# EAGLE library part PCIEX4_SMALL_CARD (library con-pcie-x4-short-card)
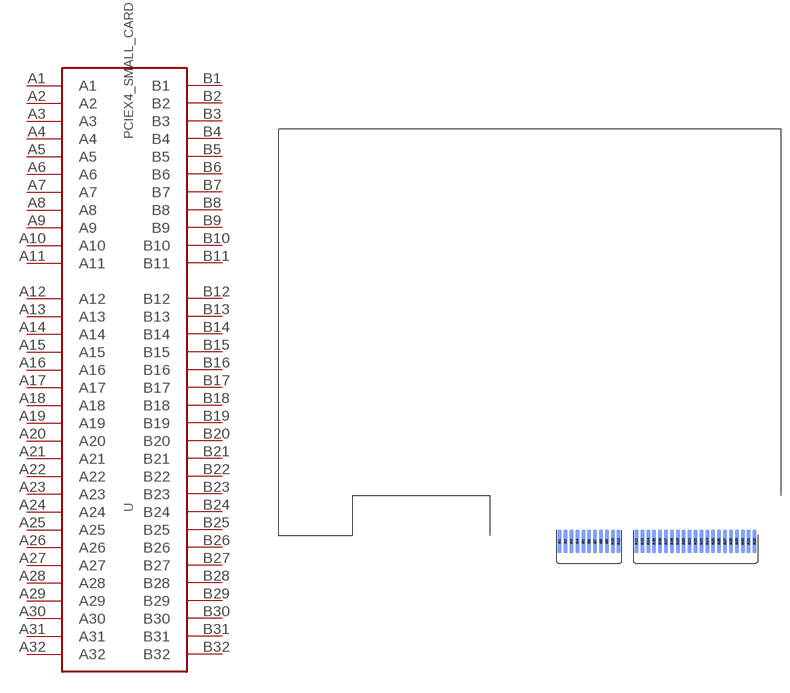
[diagram p0: symbol with the pads of PCIEX4_SMALL_CARD; footprint PCIEX4_SMALL_CARD]

Designator prefix -

## PCIEX4_SMALL_CARD  [PCIEX4_SMALL_CARD]
A1  A1
A2  A2
A3  A3
A4  A4
A5  A5
A6  A6
A7  A7
A8  A8
A9  A9
A10  A10
A11  A11
A12  A12
A13  A13
A14  A14
A15  A15
A16  A16
A17  A17
A18  A18
A19  A19
A20  A20
A21  A21
A22  A22
A23  A23
A24  A24
A25  A25
A26  A26
A27  A27
A28  A28
A29  A29
A30  A30
A31  A31
A32  A32
B1  B1
B2  B2
B3  B3
B4  B4
B5  B5
B6  B6
B7  B7
B8  B8
B9  B9
B10  B10
B11  B11
B12  B12
B13  B13
B14  B14
B15  B15
B16  B16
B17  B17
B18  B18
B19  B19
B20  B20
B21  B21
B22  B22
B23  B23
B24  B24
B25  B25
B26  B26
B27  B27
B28  B28
B29  B29
B30  B30
B31  B31
B32  B32

## Footprint PCIEX4_SMALL_CARD (pad centres in mm)
smd 0.7 x 4 bottom: A1 -12.41,-0.33; A2 -11.41,-0.33; A3 -10.41,-0.33; A4 -9.41,-0.33; A5 -8.41,-0.33; A6 -7.41,-0.33; A7 -6.41,-0.33; A8 -5.41,-0.33; A9 -4.41,-0.33; A10 -3.41,-0.33; A11 -2.41,-0.33; A12 0.59,-0.33; A13 1.59,-0.33; A14 2.59,-0.33; A15 3.59,-0.33; A16 4.59,-0.33; A17 5.59,-0.33; A18 6.59,-0.33; A19 7.59,-0.33; A20 8.59,-0.33; A21 9.59,-0.33; A22 10.59,-0.33; A23 11.59,-0.33; A24 12.59,-0.33; A25 13.59,-0.33; A26 14.59,-0.33; A27 15.59,-0.33; A28 16.59,-0.33; A29 17.59,-0.33; A30 18.59,-0.33; A31 19.59,-0.33; A32 20.59,-0.33
smd 0.7 x 4: B1 -12.41,-0.33; B2 -11.41,-0.33; B3 -10.41,-0.33; B4 -9.41,-0.33; B5 -8.41,-0.33; B6 -7.41,-0.33; B7 -6.41,-0.33; B8 -5.41,-0.33; B9 -4.41,-0.33; B10 -3.41,-0.33; B11 -2.41,-0.33; B12 0.59,-0.33; B13 1.59,-0.33; B14 2.59,-0.33; B15 3.59,-0.33; B16 4.59,-0.33; B17 5.59,-0.33; B18 6.59,-0.33; B19 7.59,-0.33; B20 8.59,-0.33; B21 9.59,-0.33; B22 10.59,-0.33; B23 11.59,-0.33; B24 12.59,-0.33; B25 13.59,-0.33; B26 14.59,-0.33; B27 15.59,-0.33; B28 16.59,-0.33; B29 17.59,-0.33; B30 18.59,-0.33; B31 19.59,-0.33; B32 20.59,-0.33